# Altium footprint library PcbLib.PcbLib: 48 footprints (part 2 of 3)
Each footprint in its own frame and in the unit in brackets; x right, y up, seen from the top. Pads: shape width x height; smd on the part's side, far side on the other; paste and mask are expansions set on the pad; w line width, h text height; cw(c..) or ccw(c..) is an arc to the next point about the centre after c.
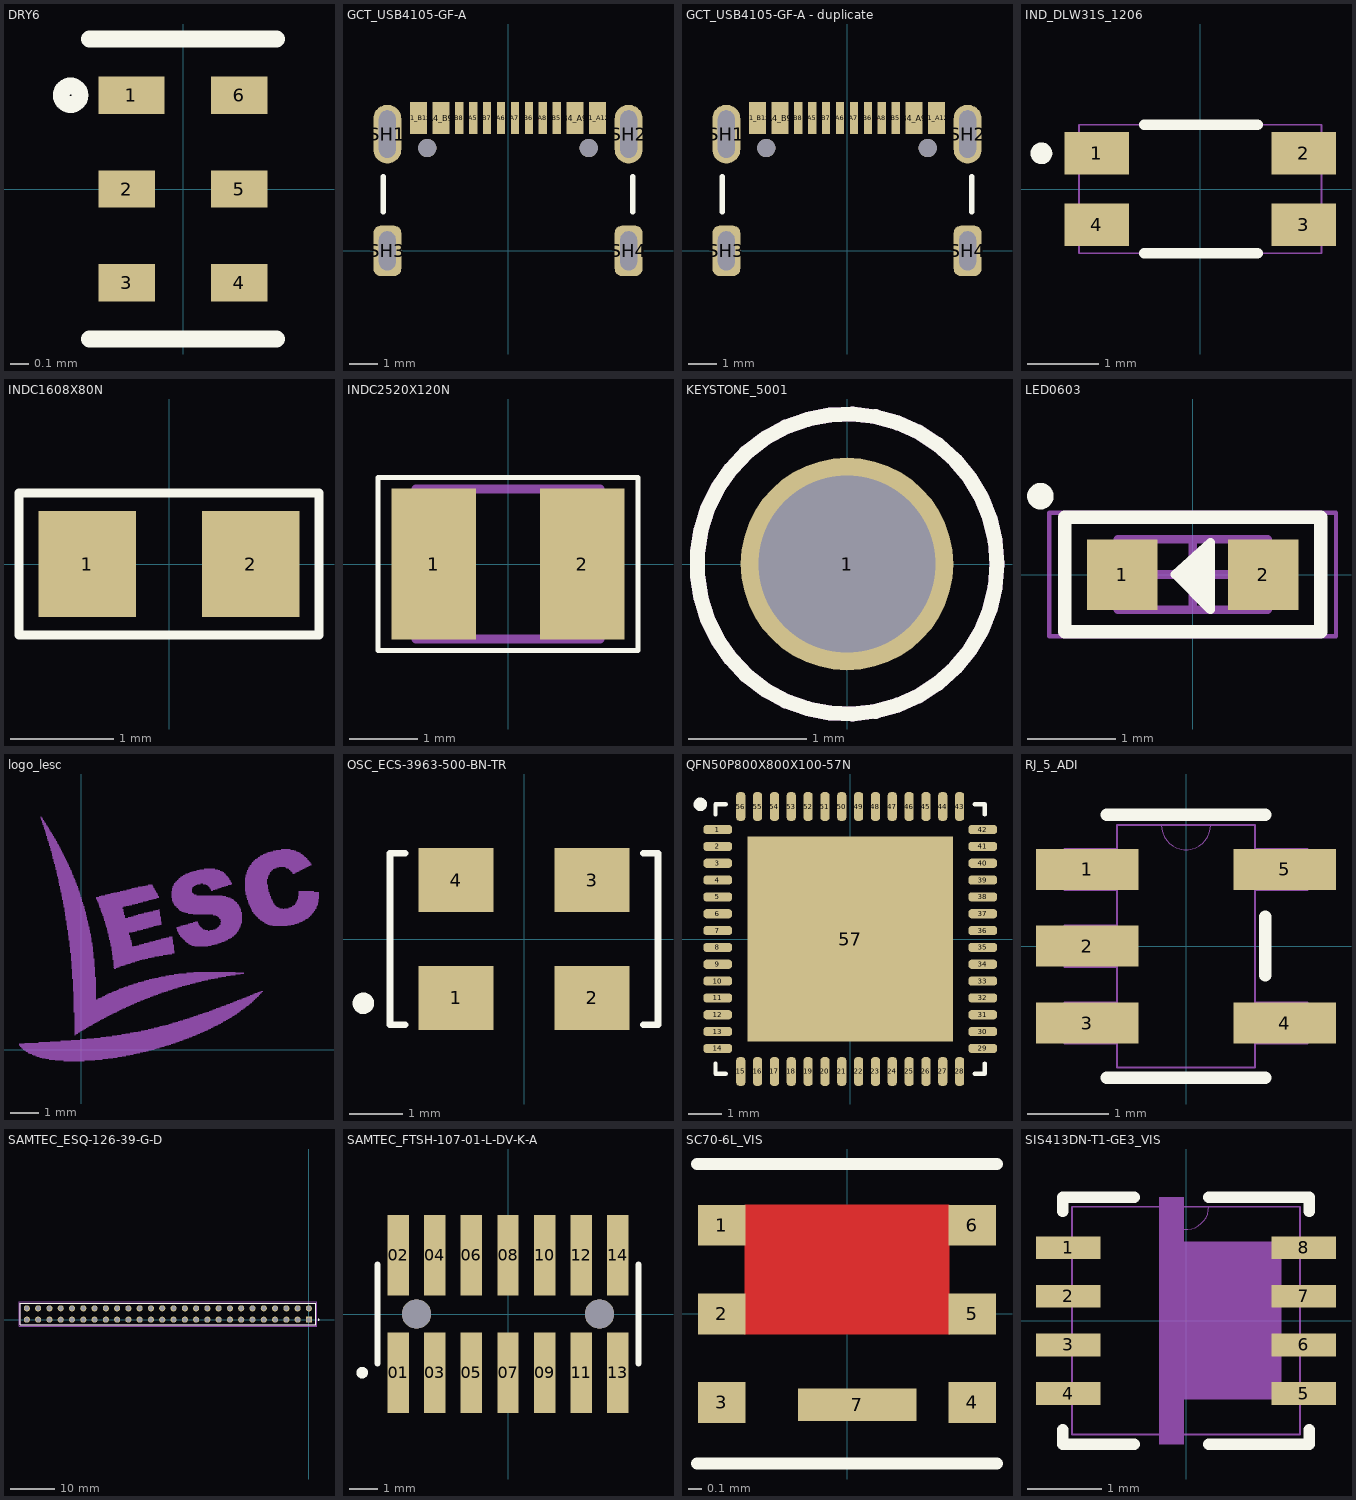
[diagram p1: the footprints below, top view; thin cyan lines are the x and y axes]

## DRY6 [mm]
pads (6):
  rect 0.35x0.2 smd paste-0.15: 1(-0.275,0.5)
  rect 0.3x0.2 smd paste-0.15: 2(-0.3,0) 3(-0.3,-0.5) 4(0.3,-0.5) 5(0.3,0) 6(0.3,0.5)
Top Overlay:
  lines w0.089: -0.65,0.5 ccw(c-0.6,0.5) -0.6,0.45 ccw(c-0.6,0.5) -0.55,0.5 ccw(c-0.6,0.5) -0.6,0.55 ccw(c-0.6,0.5) -0.647,0.484 ; -0.5,-0.8 0.5,-0.8 ; -0.5,0.8 0.5,0.8
3D body "DRY0006A.stp": height 0.58, standoff 0, extent -0.5,-0.725 0.5,0.725

## GCT_USB4105-GF-A [mm]
height 3.31
pads (18):
  rect 0.6x1.15 smd: A1_B12(-3.2,4.755) A4_B9(-2.4,4.755) B1_A12(3.2,4.755) B4_A9(2.4,4.755)
  rect 0.3x1.15 smd: A5(-1.25,4.755) A6(-0.25,4.755) A7(0.25,4.755) A8(1.25,4.755) B5(1.75,4.755) B6(0.75,4.755) B7(-0.75,4.755) B8(-1.75,4.755)
  oval 1x2.1 hole 0.6 slot 1.7 at 90 deg: SH1(-4.32,4.18) SH2(4.32,4.18)
  rrect50% 1x1.8 hole 0.6 slot 1.4 at 90 deg: SH3(-4.32,0) SH4(4.32,0)
  round 0.65 hole 0.65 unplated: ""(-2.89,3.68) ""(2.89,3.68)
Top Overlay:
  lines w0.2: -4.47,1.4 -4.47,2.65 ; 4.47,1.4 4.47,2.65
3D body "USB4105-GF-A.step": height 3.31, standoff -1.1, extent -4.479,-2.627 4.461,5.083

## GCT_USB4105-GF-A - duplicate [mm]
height 3.31
pads (18):
  rect 0.6x1.15 smd: A1_B12(-3.2,4.755) A4_B9(-2.4,4.755) B1_A12(3.2,4.755) B4_A9(2.4,4.755)
  rect 0.3x1.15 smd: A5(-1.25,4.755) A6(-0.25,4.755) A7(0.25,4.755) A8(1.25,4.755) B5(1.75,4.755) B6(0.75,4.755) B7(-0.75,4.755) B8(-1.75,4.755)
  oval 1x2.1 hole 0.6 slot 1.7 at 90 deg: SH1(-4.32,4.18) SH2(4.32,4.18)
  rrect50% 1x1.8 hole 0.6 slot 1.4 at 90 deg: SH3(-4.32,0) SH4(4.32,0)
  round 0.65 hole 0.65 unplated: ""(-2.89,3.68) ""(2.89,3.68)
Top Overlay:
  lines w0.2: -4.47,1.4 -4.47,2.65 ; 4.47,1.4 4.47,2.65
3D body "USB4105-GF-A.step": height 3.31, standoff -1.1, extent -4.479,-2.627 4.461,5.083

## IND_DLW31S_1206 [mm]
pads (4):
  rect 0.905x0.6 smd: 1(-1.45,0.5) 2(1.45,0.5) 3(1.45,-0.5) 4(-1.45,-0.5)
Top Overlay:
  circle w0.152: c-2.225,0.5 r0.076
  lines w0.152: -0.785,-0.9 0.8,-0.9 ; -0.785,0.9 0.8,0.9
Mechanical 13:
  lines w0.025: -1.7,-0.9 1.7,-0.9 1.7,0.9 -1.7,0.9 -1.7,-0.9
3D body "DLW31SN261SQ2L--3DModel-STEP-1.STEP": height 2.1, standoff 0, extent -1.6,-0.8 1.6,0.8

## INDC1608X80N [mm]
pads (2):
  rect 0.94x1.02 smd: 1(-0.79,0) 2(0.79,0)
Top Overlay:
  lines w0.089: -1.448,-0.686 1.448,-0.686 1.448,0.686 -1.448,0.686 -1.448,-0.686
3D body "DFE18SAN1R0ME0L.step": height 0.8, standoff 0, extent -0.847,-0.413 0.753,0.387

## INDC2520X120N [mm]
pads (2):
  rect 1.24x2.22 smd: 1(-1.09,0) 2(1.09,0)
Top Overlay:
  lines w0.076: -1.905,-1.27 -1.905,1.27 1.905,1.27 1.905,-1.27 -1.905,-1.27
Mechanical 13:
  lines w0.127: -1.35,-1.1 -1.35,1.1 1.35,1.1 1.35,-1.1 -1.35,-1.1
3D body "DFE252012P-1R0M_P2.step": height 1.2, standoff 0, extent -1.25,-1 1.25,1

## KEYSTONE_5001 [mm]
pads (1):
  round 1.8 hole 1.5: 1(0,0)
Top Overlay:
  circle w0.127: c0,0 r1.27
Mechanical 13:
  circle w0.127: c0,0 r1.27
3D body "step_temp.STEP": height 4.57, standoff -3.05, extent -1.27,-1.27 1.27,1.27

## LED0603 [mm]
height 0.7
pads (2):
  rect 0.8x0.8 smd: 1(-0.8,0) 2(0.8,0)
Top Overlay:
  circle w0.2: c-1.727,0.889 r0.05
  region: 0.2,0 0.2,-0.365 -0.165,0
  region: 0.2,0 -0.165,0 0.2,0.365
  lines w0.1: 0.2,0 -0.2,0 ; -0.2,0 0.2,-0.4 0.2,0.365 -0.2,0
  lines w0.152: -1.45,-0.65 -1.45,0.65 1.45,0.65 1.45,-0.65 -1.45,-0.65
Mechanical 13:
  rectangle: -0.85,-0.4 -0.621,0.4
  lines w0.1: -0.85,-0.4 0.85,-0.4 0.85,0.4 -0.85,0.4 -0.85,-0.4
Mechanical 15:
  lines w0.05: -1.625,-0.7 1.625,-0.7 1.625,0.7 -1.625,0.7 -1.625,-0.7
  lines w0.1: -0.4,0 0.4,0 ; 0,-0.4 0,0.4
3D body "User Library-LTST-C190GKT.STEP": height 0.9, standoff 0, extent -0.85,-0.45 0.85,0.45

## logo_lesc [mm]
Top Solder:
  drawing of 5 lines, arcs and shapes, not listed

## OSC_ECS-3963-500-BN-TR [mm]
pads (4):
  rect 1.4x1.2 smd: 1(-1.27,-1.1) 2(1.27,-1.1) 3(1.27,1.1) 4(-1.27,1.1)
Top Overlay:
  circle w0.2: c-3,-1.2 r0.1
  lines w0.127: -2.224,-1.6 -2.5,-1.6 -2.5,1.6 -2.224,1.6 ; 2.224,-1.6 2.5,-1.6 2.5,1.6 2.224,1.6
3D body "ECS-3963-500-BN-TR.step": height 1.3, standoff 0, extent -2.5,-1.6 2.5,1.6

## QFN50P800X800X100-57N [mm]
pads (57):
  rrect70% 0.85x0.27 smd: 1(-3.935,3.25) 2(-3.935,2.75) 3(-3.935,2.25) 4(-3.935,1.75) 5(-3.935,1.25) 6(-3.935,0.75) 7(-3.935,0.25) 8(-3.935,-0.25) 9(-3.935,-0.75) 10(-3.935,-1.25) 11(-3.935,-1.75) 12(-3.935,-2.25) 13(-3.935,-2.75) 14(-3.935,-3.25) 29(3.935,-3.25) 30(3.935,-2.75) 31(3.935,-2.25) 32(3.935,-1.75) 33(3.935,-1.25) 34(3.935,-0.75) 35(3.935,-0.25) 36(3.935,0.25) 37(3.935,0.75) 38(3.935,1.25) 39(3.935,1.75) 40(3.935,2.25) 41(3.935,2.75) 42(3.935,3.25)
  rrect70% 0.27x0.85 smd: 15(-3.25,-3.935) 16(-2.75,-3.935) 17(-2.25,-3.935) 18(-1.75,-3.935) 19(-1.25,-3.935) 20(-0.75,-3.935) 21(-0.25,-3.935) 22(0.25,-3.935) 23(0.75,-3.935) 24(1.25,-3.935) 25(1.75,-3.935) 26(2.25,-3.935) 27(2.75,-3.935) 28(3.25,-3.935) 43(3.25,3.935) 44(2.75,3.935) 45(2.25,3.935) 46(1.75,3.935) 47(1.25,3.935) 48(0.75,3.935) 49(0.25,3.935) 50(-0.25,3.935) 51(-0.75,3.935) 52(-1.25,3.935) 53(-1.75,3.935) 54(-2.25,3.935) 55(-2.75,3.935) 56(-3.25,3.935)
  rect 6.1x6.1 smd paste-4: 57(0,0)
Top Overlay:
  circle w0.2: c-4.45,4 r0.1
  lines w0.127: -4,-3.7 -4,-4 -3.7,-4 ; -4,3.7 -4,4 -3.7,4 ; 3.7,-4 4,-4 4,-3.7 ; 3.7,4 4,4 4,3.7
Top Paste:
  region: 1.93,-1.938 -1.938,-1.938 -1.938,1.93 1.93,1.93
3D body "FT2232H-56Q-TRAY.step": height 0.9, standoff 0, extent -4,-4 4,4

## RJ_5_ADI [mil]
pads (5):
  rect 50x20 smd paste+0 mask+0: 1(-48,37.4) 2(-48,0) 3(-48,-37.4) 4(48,-37.4) 5(48,37.4)
Top Overlay:
  lines w6: -38.5,-64 38.5,-64 ; -38.5,64 38.5,64 ; 38.5,-14.3 38.5,14.3
Mechanical 13:
  lines w0: -12,59 ccw(c0,59) 12,59
  lines w1: -59,-47.4 -59,-27.4 -33.5,-27.4 -33.5,-47.4 -59,-47.4 ; -59,-10 -59,10 -33.5,10 -33.5,-10 -59,-10 ; -59,27.4 -59,47.4 -33.5,47.4 -33.5,27.4 -59,27.4 ; -33.5,-59 33.5,-59 33.5,59 -33.5,59 -33.5,-59 ; 33.5,-47.4 33.5,-27.4 59,-27.4 59,-47.4 33.5,-47.4 ; 33.5,27.4 33.5,47.4 59,47.4 59,27.4 33.5,27.4
3D body "RJ_5_ADI.step": height 57.09, standoff 0, extent -59.02,-59.02 59.02,59.02

## SAMTEC_ESQ-126-39-G-D [mm]
pads (52):
  rect 1.37x1.37 hole 1.02: 01(0,0)
  round 1.37 hole 1.02: 02(0,2.54) 03(-2.54,0) 04(-2.54,2.54) 05(-5.08,0) 06(-5.08,2.54) 07(-7.62,0) 08(-7.62,2.54) 09(-10.16,0) 10(-10.16,2.54) 11(-12.7,0) 12(-12.7,2.54) 13(-15.24,0) 14(-15.24,2.54) 15(-17.78,0) 16(-17.78,2.54) 17(-20.32,0) 18(-20.32,2.54) 19(-22.86,0) 20(-22.86,2.54) 21(-25.4,0) 22(-25.4,2.54) 23(-27.94,0) 24(-27.94,2.54) 25(-30.48,0) 26(-30.48,2.54) 27(-33.02,0) 28(-33.02,2.54) 29(-35.56,0) 30(-35.56,2.54) 31(-38.1,0) 32(-38.1,2.54) 33(-40.64,0) 34(-40.64,2.54) 35(-43.18,0) 36(-43.18,2.54) 37(-45.72,0) 38(-45.72,2.54) 39(-48.26,0) 40(-48.26,2.54) 41(-50.8,0) 42(-50.8,2.54) 43(-53.34,0) 44(-53.34,2.54) 45(-55.88,0) 46(-55.88,2.54) 47(-58.42,0) 48(-58.42,2.54) 49(-60.96,0) 50(-60.96,2.54) 51(-63.5,0) 52(-63.5,2.54)
Top Overlay:
  circle w0.2: c2.175,0 r0.1
  lines w0.2: -65.025,-1.205 -65.025,3.745 1.525,3.745 1.525,-1.205 -65.025,-1.205
Mechanical 13:
  circle w0.2: c2.175,0 r0.1
  lines w0.1: -65.025,-1.205 -65.025,3.745 ; -65.025,-1.205 1.525,-1.205 ; -65.025,-1.205 -65.025,3.745 ; -65.025,3.745 1.525,3.745 ; -65.025,3.745 1.525,3.745 ; 1.525,-1.205 1.525,3.745 ; 1.525,-1.205 1.525,3.745
Mechanical 15:
  lines w0.05: -65.275,-1.455 -65.275,3.995 1.775,3.995 1.775,-1.455 -65.275,-1.455
3D body "ESQ-126-39-G-D.stp": height 11.05, standoff -12.19, extent -65.024,-1.27 1.524,3.81

## SAMTEC_FTSH-107-01-L-DV-K-A [mm]
pads (16):
  rect 0.74x2.79 smd: 01(-3.81,-2.035) 02(-3.81,2.035) 03(-2.54,-2.035) 04(-2.54,2.035) 05(-1.27,-2.035) 06(-1.27,2.035) 07(0,-2.035) 08(0,2.035) 09(1.27,-2.035) 10(1.27,2.035) 11(2.54,-2.035) 12(2.54,2.035) 13(3.81,-2.035) 14(3.81,2.035)
  round 1.02 hole 1.02 unplated: ""(-3.175,0) ""(3.175,0)
Top Overlay:
  circle w0.2: c-5.06,-2.035 r0.1
  lines w0.2: -4.53,-1.715 -4.53,1.715 ; 4.53,-1.715 4.53,1.715
Top Paste:
  region: -0.9,-3.427 -1.64,-3.427 -1.64,-0.637 -0.9,-0.637
  region: -0.9,0.637 -1.64,0.637 -1.64,3.427 -0.9,3.427
  region: 0.37,-3.427 -0.37,-3.427 -0.37,-0.637 0.37,-0.637
  region: 0.37,0.637 -0.37,0.637 -0.37,3.427 0.37,3.427
  region: 1.64,-3.427 0.9,-3.427 0.9,-0.637 1.64,-0.637
  region: 1.64,0.637 0.9,0.637 0.9,3.427 1.64,3.427
  region: 2.91,-3.427 2.17,-3.427 2.17,-0.637 2.91,-0.637
  region: 2.91,0.637 2.17,0.637 2.17,3.427 2.91,3.427
  region: 4.18,-3.427 3.44,-3.427 3.44,-0.637 4.18,-0.637
  region: 4.18,0.637 3.44,0.637 3.44,3.427 4.18,3.427
Bottom Solder:
  circle w0: c3.175,0 r0.561
  circle w0: c-3.175,0 r0.561
3D body "FTSH-107-01-L-DV-K-A.stp": height 6.1, standoff -0.89, extent -4.445,-2.921 4.445,2.921

## SC70-6L_VIS [mm]
pads (7):
  rect 0.35x0.3 smd paste-0.343: 1(-0.92,0.65) 2(-0.92,0) 3(-0.92,-0.65) 4(0.92,-0.65) 5(0.92,0) 6(0.92,0.65)
  rect 0.87x0.235 smd paste-0.445: 7(0.076,-0.667)
Top Layer:
  region: 0.75,0.8 -0.75,0.8 -0.75,-0.15 0.75,-0.15
Top Overlay:
  lines w0.089: -1.1,-1.1 1.1,-1.1 ; -1.1,1.1 1.1,1.1
Top Paste:
  region: 0.75,0.79 -0.75,0.79 -0.75,-0.15 0.75,-0.15
  region: 0.75,0.79 -0.75,0.79 -0.75,-0.15 0.75,-0.15
  region: 0.75,0.79 -0.75,0.79 -0.75,-0.15 0.75,-0.15
  region: 0.75,0.79 -0.75,0.79 -0.75,-0.15 0.75,-0.15
  region: 0.75,0.79 -0.75,0.79 -0.75,-0.15 0.75,-0.15
  region: 0.511,-0.553 -0.359,-0.553 -0.359,-0.782 0.511,-0.782
Top Solder:
  region: 0.75,0.79 -0.75,0.79 -0.75,-0.15 0.75,-0.15
3D body "SIA436DJ-T1-GE3.STEP": height 0.8, standoff 0, extent -1.025,-1.025 1.025,1.025

## SIS413DN-T1-GE3_VIS [mil]
pads (8):
  rect 34x12 smd: 1(-62,38.38) 2(-62,12.79) 3(-62,-12.79) 4(-62,-38.38) 5(62,-38.38) 6(62,-12.79) 7(62,12.79) 8(62,38.38)
Top Overlay:
  lines w6: -65,-57.48 -65,-65 -27.28,-65 ; -65,57.48 -65,65 -27.28,65 ; 11.92,-65 65,-65 65,-57.48 ; 11.92,65 65,65 65,57.48
Top Paste:
  region: -12.96,-41.5 -12.96,41.5 50.04,41.5 50.04,-41.5
  region: -14.18,-65 -14.18,65 -1.18,65 -1.18,-65
  region: -5.12,-3.94 -10.24,-3.94 -10.24,-61.06 -5.12,-61.06
  region: -5.12,61.06 -10.24,61.06 -10.24,3.94 -5.12,3.94
  region: -5.12,-3.94 -10.24,-3.94 -10.24,-61.06 -5.12,-61.06
  region: -5.12,61.06 -10.24,61.06 -10.24,3.94 -5.12,3.94
  region: -5.12,-3.94 -10.24,-3.94 -10.24,-61.06 -5.12,-61.06
  region: -5.12,61.06 -10.24,61.06 -10.24,3.94 -5.12,3.94
  region: 50.04,41.5 -12.96,41.5 -12.96,-41.5 50.04,-41.5
Top Solder:
  region: -12.96,-41.5 -12.96,41.5 50.04,41.5 50.04,-41.5
  region: -14.18,-65 -14.18,65 -1.18,65 -1.18,-65
Mechanical 13:
  region: -12.96,-41.5 -12.96,41.5 50.04,41.5 50.04,-41.5
  region: -14.18,-65 -14.18,65 -1.18,65 -1.18,-65
  region: -12.96,-41.5 -12.96,41.5 50.04,41.5 50.04,-41.5
  region: -12.96,-41.5 -12.96,41.5 50.04,41.5 50.04,-41.5
  region: -14.18,-65 -14.18,65 -1.18,65 -1.18,-65
  region: -14.18,-65 -14.18,65 -1.18,65 -1.18,-65
  lines w0: -12,60 ccw(c0,60) 12,60
  lines w1: -60,-60 -60,60 60,60 60,-60 -60,-60
3D body "SQS405EN-T1_GE3.STEP": height 44, standoff 0, extent -65,-65 65,65